# EAGLE library part XR-4610R2CD (library exar)
R/W PREAMPLIFIER
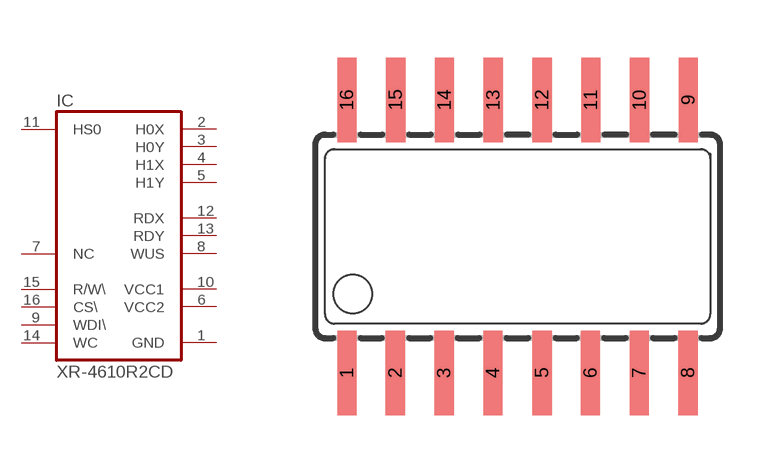
[diagram p87: symbol with the pads of SOP-16; footprint SOP-16]

Designator prefix IC

## XR-4610R2CD  [SOP-16]
1  GND  pwr
2  H0X
3  H0Y
4  H1X
5  H1Y
6  VCC2  pwr
7  NC  nc
8  WUS  out
9  WDI\  in
10  VCC1  pwr
11  HS0  in
12  RDX  out
13  RDY  out
14  WC  in
15  R/W\  in
16  CS\  in

## Footprint SOP-16 (pad centres in mm)
Small Outline Package
smd 0.5 x 2.2: 1 -4.445,-3.55; 2 -3.185,-3.55; 3 -1.915,-3.55; 4 -0.645,-3.55; 5 0.635,-3.55; 6 1.895,-3.55; 7 3.165,-3.55; 8 4.435,-3.55; 9 4.445,3.55; 10 3.175,3.55; 11 1.905,3.55; 12 0.635,3.55; 13 -0.635,3.55; 14 -1.905,3.55; 15 -3.175,3.55; 16 -4.445,3.55